# EAGLE library part AXN350038 (library m-pad)
Matsushita P8 NARROW-PITCH CONNECTORS FOR PC BOARDS 50Pin Socket NARROW-PITCH (0.8mm) CONNECTORS P8 SERIES FEATURES The product lineup consists of the low profile of: - 3 mm - 3.5 mm - 4 mm - 4.5 mm - 5 mm - 5.5 mm - 6 mm - 7 mm - 8 mm - 11.5 mm - 13 mm - 14 mm APPLICATIONS Small portable equipment, laptop computers, video equipment, radio communication, cellular telephones, etc. Please send any comments to: messi@users.sourceforge.net
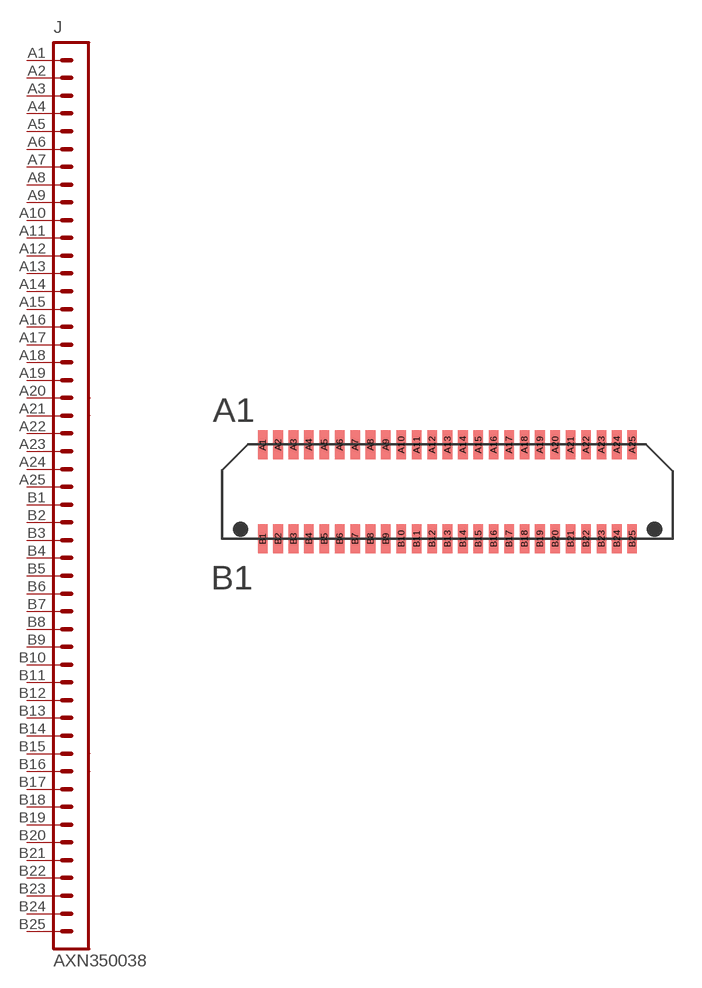
[diagram p7: symbol with the pads of AXN350038S; footprint AXN350038S]

Designator prefix J

## AXN350038  [AXN350038S]
A1  1  pas
A2  2  pas
A3  3  pas
A4  4  pas
A5  5  pas
A6  6  pas
A7  7  pas
A8  8  pas
A9  9  pas
A10  10  pas
A11  11  pas
A12  12  pas
A13  13  pas
A14  14  pas
A15  15  pas
A16  16  pas
A17  17  pas
A18  18  pas
A19  19  pas
A20  20  pas
A21  21  pas
A22  22  pas
A23  23  pas
A24  24  pas
A25  25  pas
B1  26  pas
B2  27  pas
B3  28  pas
B4  29  pas
B5  30  pas
B6  31  pas
B7  32  pas
B8  33  pas
B9  34  pas
B10  35  pas
B11  36  pas
B12  37  pas
B13  38  pas
B14  39  pas
B15  40  pas
B16  41  pas
B17  42  pas
B18  43  pas
B19  44  pas
B20  45  pas
B21  46  pas
B22  47  pas
B23  48  pas
B24  49  pas
B25  50  pas

## Footprint AXN350038S (pad centres in mm)
Matsushita NARROW-PITCH CONNECTORS FOR PC BOARDS 50Pin Socket NARROW-PITCH (0.8mm) CONNECTORS P8 SERIES FEATURES The product lineup consists of the low profile of: - 3 mm - 3.5 mm - 4 mm - 4.5 mm - 5 mm - 5.5 mm - 6 mm - 7 mm - 8 mm - 11.5 mm - 13 mm - 14 mm APPLICATIONS Small portable equipment, laptop computers, video equipment, radio communication, cellular telephones, etc. Please send any comments to: messi@users.sourceforge.net
smd 0.5 x 1.5: A1 -9.6,2.44; A2 -8.8,2.44; A3 -8,2.44; A4 -7.2,2.44; A5 -6.4,2.44; A6 -5.6,2.44; A7 -4.8,2.44; A8 -4,2.44; A9 -3.2,2.44; A10 -2.4,2.44; A11 -1.6,2.44; A12 -0.8,2.44; A13 0,2.44; A14 0.8,2.44; A15 1.6,2.44; A16 2.4,2.44; A17 3.2,2.44; A18 4,2.44; A19 4.8,2.44; A20 5.6,2.44; A21 6.4,2.44; A22 7.2,2.44; A23 8,2.44; A24 8.8,2.44; A25 9.6,2.44; B1 -9.6,-2.44; B2 -8.8,-2.44; B3 -8,-2.44; B4 -7.2,-2.44; B5 -6.4,-2.44; B6 -5.6,-2.44; B7 -4.8,-2.44; B8 -4,-2.44; B9 -3.2,-2.44; B10 -2.4,-2.44; B11 -1.6,-2.44; B12 -0.8,-2.44; B13 0,-2.44; B14 0.8,-2.44; B15 1.6,-2.44; B16 2.4,-2.44; B17 3.2,-2.44; B18 4,-2.44; B19 4.8,-2.44; B20 5.6,-2.44; B21 6.4,-2.44; B22 7.2,-2.44; B23 8,-2.44; B24 8.8,-2.44; B25 9.6,-2.44